# EAGLE library part EXB38V (library added_parts)
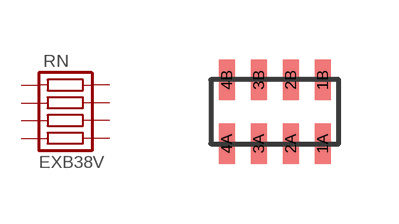
[diagram p17: symbol with the pads of EXB38V; footprint EXB38V]

Designator prefix RN

## EXB38V  [EXB38V]
1A  1A  pas
1B  1B  pas
2A  2A  pas
2B  2B  pas
3A  3A  pas
3B  3B  pas
4A  4A  pas
4B  4B  pas

## Footprint EXB38V (pad centres in mm)
smd 0.4 x 1: 1A 1.2,-0.8; 1B 1.2,0.8; 2A 0.4,-0.8; 2B 0.4,0.8; 3A -0.4,-0.8; 3B -0.4,0.8; 4A -1.2,-0.8; 4B -1.2,0.8